# Altium schematic symbol library Battery Chargers.SchLib: 31 symbols
Pins are listed as number, name and electrical type; pins without a type are passive.

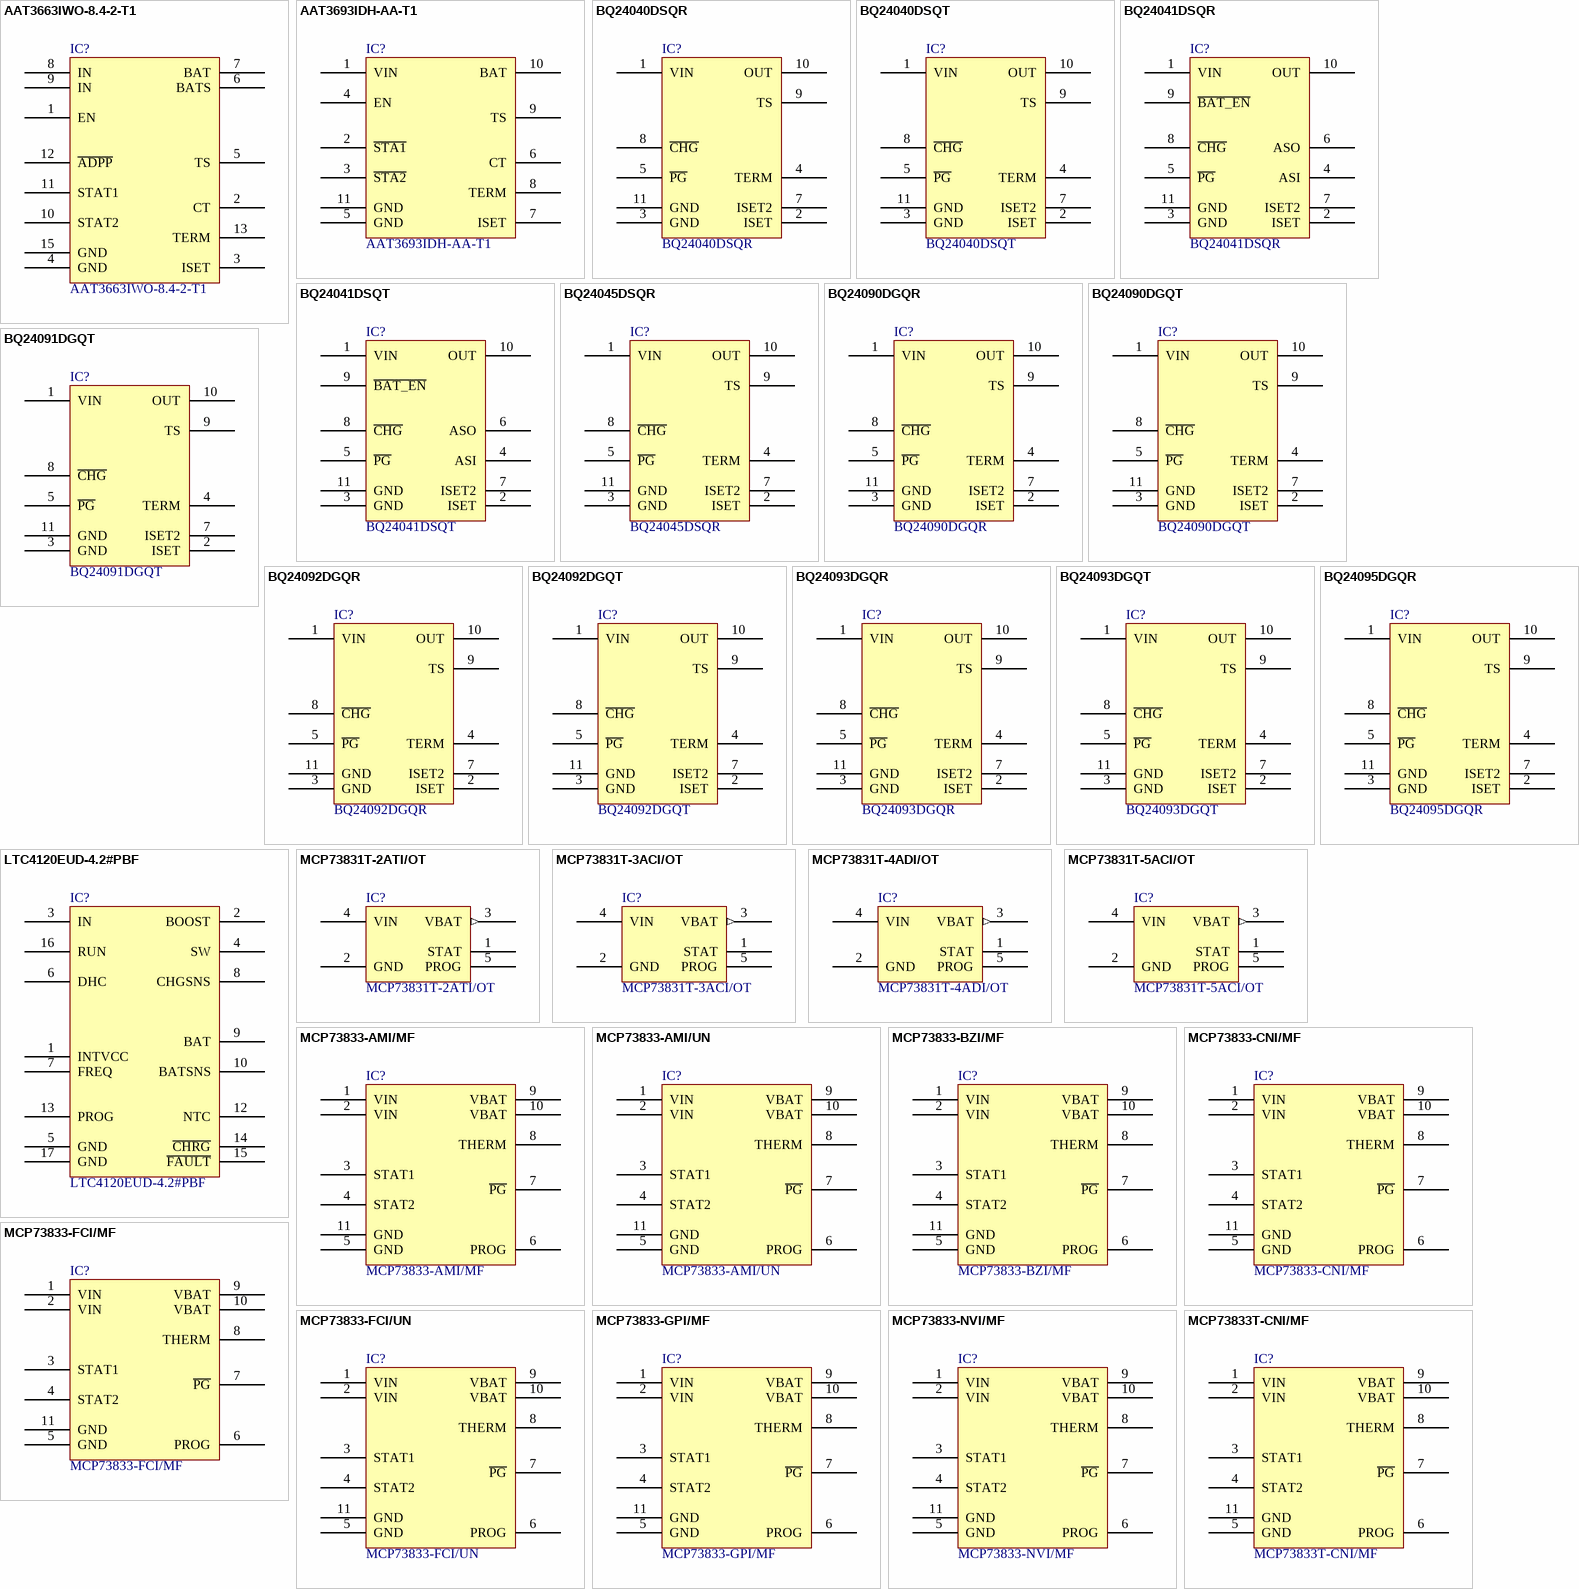
[diagram p0: symbols AAT3663IWO-8.4-2-T1 to MCP73833T-CNI/MF]

## AAT3663IWO-8.4-2-T1
designator IC?
IC LI-ION CHARGER 14-DFN; Manufacturer: Skyworks Solutions Inc.; Battery Chemistry: Lithium Ion/Polymer; Battery Pack Voltage: 8.4V; Charge Current - Max: 1A; Current - Charging: Constant - Programmable; Fault Protection: Over Current, Over Temperature, Over Voltage, Short Circuit; Interface: USB; Number of Cells: 2; Programmable Features: Current; Voltage - Supply (Max): 13.2V; Part Number: AAT3663IWO-8.4-2-T1; ComponentLink1Description: Datasheet; ComponentLink1URL: http://www.skyworksinc.com/uploads/documents/AAT3663_201878C.pdf; ComponentLink2Description: DigiKey Link; ComponentLink2URL: //digikey.com/product-detail/en/skyworks-solutions-inc/AAT3663IWO-8.4-2-T1/863-1544-2-ND/4753043; Device Package: 14-WFDFN Exposed Pad; LastUpdated: 12/6/2019 2:00:27 AM; Lifecycle Status: 0; Minimum Order: 1; Mounting Type: Surface Mount; Operating Temperature: -40°C ~ 85°C (TA); Package / Case: 14-WFDFN Exposed Pad; Packaging: TapeAndReel; PartId: 23; Part Status: Active; Price: 0.78; Series: BatteryManager™; Supplier 1: DigiKey; Supplier Part Number 1: 863-1544-2-ND; Supplier Device Package: 14-TDFN (3x3)
footprint SKYWORKS TDFN-14 3X3MM
pins: 1 EN, 2 CT, 3 ISET, 4 GND, 5 TS, 6 BATS, 7 BAT, 8 IN, 9 IN, 10 STAT2, 11 STAT1, 12 ~{ADPP}, 13 TERM, 15 GND

## AAT3693IDH-AA-T1
designator IC?
1.6A LINEAR LI-ION CHGR 10TDFN; Manufacturer: Skyworks Solutions Inc.; Battery Chemistry: Lithium Ion/Polymer; Battery Pack Voltage: 4.2V; Current - Charging: Constant - Programmable; Fault Protection: Over Current, Over Temperature, Over Voltage, Short Circuit; Interface: USB; Number of Cells: 1; Programmable Features: Current; Voltage - Supply (Max): 7.5V; Part Number: AAT3693IDH-AA-T1; Charge Current - Max: 1.6A; ComponentLink1Description: Datasheet; ComponentLink1URL: http://www.skyworksinc.com/uploads/documents/AAT3693_201896E.pdf; ComponentLink2Description: DigiKey Link; ComponentLink2URL: //digikey.com/product-detail/en/skyworks-solutions-inc/AAT3693IDH-AA-T1/863-1512-2-ND/4246165; Device Package: 10-WFDFN Exposed Pad; LastUpdated: 12/3/2019 11:40:28 PM; Lifecycle Status: 0; Minimum Order: 1; Mounting Type: Surface Mount; Operating Temperature: -40°C ~ 85°C (TA); Package / Case: 10-WFDFN Exposed Pad; Packaging: TapeAndReel; PartId: 2; Part Status: Active; Price: 0.41; Series: -; Supplier 1: DigiKey; Supplier Part Number 1: 863-1512-2-ND; Supplier Device Package: 10-TDFN (2.2x2.2)
footprint SKYWORKS TDFN-10 2.2X2.2MM
pins: 1 VIN, 2 ~{STA1}, 3 ~{STA2}, 4 EN, 5 GND, 6 CT, 7 ISET, 8 TERM, 9 TS, 10 BAT, 11 GND

## BQ24040DSQR
designator IC?
IC BATT CHG LI-ION 1 CELL 10SON; Manufacturer: Texas Instruments; Battery Chemistry: Lithium Ion/Polymer; Battery Pack Voltage: 4.2V; Charge Current - Max: 1A; Current - Charging: Constant - Programmable; Fault Protection: Over Temperature, Over Voltage, Short Circuit; Number of Cells: 1; Programmable Features: Current; Voltage - Supply (Max): 28V; Part Number: BQ24040DSQR; ComponentLink1Description: Datasheet; ComponentLink1URL: http://www.ti.com/general/docs/suppproductinfo.tsp?distId=10&gotoUrl=http%3A%2F%2Fwww.ti.com%2Flit%2Fgpn%2Fbq24040; ComponentLink2Description: DigiKey Link; ComponentLink2URL: //digikey.com/product-detail/en/texas-instruments/BQ24040DSQR/296-37142-2-ND/2231631; Device Package: 10-WFDFN Exposed Pad; LastUpdated: 12/3/2019 11:44:47 PM; Lifecycle Status: 0; Minimum Order: 1; Mounting Type: Surface Mount; Operating Temperature: -40°C ~ 85°C (TA); Package / Case: 10-WFDFN Exposed Pad; Packaging: TapeAndReel; PartId: 3; Part Status: Active; Price: 0.49; Series: -; Supplier 1: DigiKey; Supplier Part Number 1: 296-37142-2-ND; Supplier Device Package: 10-SON (2x2)
footprint TI PWSON-10 DSQ
pins: 1 VIN, 2 ISET, 3 GND, 4 TERM, 5 ~{PG}, 7 ISET2, 8 ~{CHG}, 9 TS, 10 OUT, 11 GND

## BQ24040DSQT
designator IC?
IC BATT CHG LI-ION 1 CELL 10SON; Manufacturer: Texas Instruments; Battery Chemistry: Lithium Ion/Polymer; Battery Pack Voltage: 4.2V; Charge Current - Max: 1A; Current - Charging: Constant - Programmable; Fault Protection: Over Temperature, Over Voltage, Short Circuit; Number of Cells: 1; Programmable Features: Current; Voltage - Supply (Max): 28V; Part Number: BQ24040DSQT; ComponentLink1Description: Datasheet; ComponentLink1URL: http://www.ti.com/general/docs/suppproductinfo.tsp?distId=10&gotoUrl=http%3A%2F%2Fwww.ti.com%2Flit%2Fgpn%2Fbq24040; ComponentLink2Description: DigiKey Link; ComponentLink2URL: //digikey.com/product-detail/en/texas-instruments/BQ24040DSQT/296-25136-2-ND/2165906; Device Package: 10-WFDFN Exposed Pad; LastUpdated: 12/8/2019 3:17:40 AM; Lifecycle Status: 0; Minimum Order: 1; Mounting Type: Surface Mount; Operating Temperature: -40°C ~ 85°C (TA); Package / Case: 10-WFDFN Exposed Pad; Packaging: TapeAndReel; PartId: 27; Part Status: Active; Price: 0.81; Series: -; Supplier 1: DigiKey; Supplier Part Number 1: 296-25136-2-ND; Supplier Device Package: 10-SON (2x2)
footprint TI PWSON-10 DSQ
pins: 1 VIN, 2 ISET, 3 GND, 4 TERM, 5 ~{PG}, 7 ISET2, 8 ~{CHG}, 9 TS, 10 OUT, 11 GND

## BQ24041DSQR
designator IC?
IC BATT CHG LI-ION 1 CELL 10SON; Manufacturer: Texas Instruments; Battery Chemistry: Lithium Ion/Polymer; Battery Pack Voltage: 4.2V; Charge Current - Max: 1A; Current - Charging: Constant - Programmable; Fault Protection: Over Temperature, Over Voltage, Short Circuit; Number of Cells: 1; Voltage - Supply (Max): 28V; Part Number: BQ24041DSQR; ComponentLink1Description: Datasheet; ComponentLink1URL: http://www.ti.com/general/docs/suppproductinfo.tsp?distId=10&gotoUrl=http%3A%2F%2Fwww.ti.com%2Flit%2Fgpn%2Fbq24041; ComponentLink2Description: DigiKey Link; ComponentLink2URL: //digikey.com/product-detail/en/texas-instruments/BQ24041DSQR/296-46410-1-ND/7033584; Device Package: 10-WFDFN Exposed Pad; LastUpdated: 12/3/2019 11:47:33 PM; Lifecycle Status: 0; Minimum Order: 1; Mounting Type: Surface Mount; Operating Temperature: 0°C ~ 125°C (TJ); Package / Case: 10-WFDFN Exposed Pad; Packaging: CutTape; PartId: 4; Part Status: Active; Price: 1.26; Series: -; Supplier 1: DigiKey; Supplier Part Number 1: 296-46410-1-ND; Supplier Device Package: 10-WSON (2x2)
footprint TI PWSON-10 DSQ
pins: 1 VIN, 2 ISET, 3 GND, 4 ASI, 5 ~{PG}, 6 ASO, 7 ISET2, 8 ~{CHG}, 9 ~{BAT_EN}, 10 OUT, 11 GND

## BQ24041DSQT
designator IC?
IC BATT CHG LI-ION 1 CELL 10SON; Manufacturer: Texas Instruments; Battery Chemistry: Lithium Ion/Polymer; Battery Pack Voltage: 4.2V; Charge Current - Max: 1A; Current - Charging: Constant - Programmable; Fault Protection: Over Temperature, Over Voltage, Short Circuit; Number of Cells: 1; Voltage - Supply (Max): 28V; Part Number: BQ24041DSQT; ComponentLink1Description: Datasheet; ComponentLink1URL: http://www.ti.com/general/docs/suppproductinfo.tsp?distId=10&gotoUrl=http%3A%2F%2Fwww.ti.com%2Flit%2Fgpn%2Fbq24041; ComponentLink2Description: DigiKey Link; ComponentLink2URL: //digikey.com/product-detail/en/texas-instruments/BQ24041DSQT/296-25137-2-ND/2165907; Device Package: 10-WFDFN Exposed Pad; LastUpdated: 12/8/2019 3:18:14 AM; Lifecycle Status: 0; Minimum Order: 1; Mounting Type: Surface Mount; Operating Temperature: 0°C ~ 125°C (TJ); Package / Case: 10-WFDFN Exposed Pad; Packaging: TapeAndReel; PartId: 28; Part Status: Active; Price: 0.81; Series: -; Supplier 1: DigiKey; Supplier Part Number 1: 296-25137-2-ND; Supplier Device Package: 10-SON (2x2)
footprint TI PWSON-10 DSQ
pins: 1 VIN, 2 ISET, 3 GND, 4 ASI, 5 ~{PG}, 6 ASO, 7 ISET2, 8 ~{CHG}, 9 ~{BAT_EN}, 10 OUT, 11 GND

## BQ24045DSQR
designator IC?
IC BATT CHG LI-ION 1 CELL 10SON; Manufacturer: Texas Instruments; Battery Chemistry: Lithium Ion/Polymer; Battery Pack Voltage: 4.35V; Charge Current - Max: 1A; Current - Charging: Constant - Programmable; Fault Protection: Over Temperature, Over Voltage, Short Circuit; Number of Cells: 1; Programmable Features: Current; Voltage - Supply (Max): 28V; Part Number: BQ24045DSQR; ComponentLink1Description: Datasheet; ComponentLink1URL: http://www.ti.com/general/docs/suppproductinfo.tsp?distId=10&gotoUrl=http%3A%2F%2Fwww.ti.com%2Flit%2Fgpn%2Fbq24045; ComponentLink2Description: DigiKey Link; ComponentLink2URL: //digikey.com/product-detail/en/texas-instruments/BQ24045DSQR/296-39905-2-ND/3926683; Device Package: 10-WFDFN Exposed Pad; LastUpdated: 12/4/2019 1:41:14 AM; Lifecycle Status: 0; Minimum Order: 1; Mounting Type: Surface Mount; Operating Temperature: 0°C ~ 125°C (TJ); Package / Case: 10-WFDFN Exposed Pad; Packaging: TapeAndReel; PartId: 7; Part Status: Active; Price: 0.49; Series: -; Supplier 1: DigiKey; Supplier Part Number 1: 296-39905-2-ND; Supplier Device Package: 10-SON (2x2)
footprint TI PWSON-10 DSQ
pins: 1 VIN, 2 ISET, 3 GND, 4 TERM, 5 ~{PG}, 7 ISET2, 8 ~{CHG}, 9 TS, 10 OUT, 11 GND

## BQ24090DGQR
designator IC?
IC BATT CHRGR LI-ION 10MSOP; Manufacturer: Texas Instruments; Battery Chemistry: Lithium Ion/Polymer; Battery Pack Voltage: 4.2V; Charge Current - Max: 1A; Current - Charging: Constant - Programmable; Fault Protection: Over Temperature, Over Voltage, Short Circuit; Interface: USB; Number of Cells: 1; Programmable Features: Current; Voltage - Supply (Max): 6.45V; Part Number: BQ24090DGQR; ComponentLink1Description: Datasheet; ComponentLink1URL: http://www.ti.com/general/docs/suppproductinfo.tsp?distId=10&gotoUrl=http%3A%2F%2Fwww.ti.com%2Flit%2Fgpn%2Fbq24092; ComponentLink2Description: DigiKey Link; ComponentLink2URL: //digikey.com/product-detail/en/texas-instruments/BQ24090DGQR/296-38875-2-ND/2353309; Device Package: 10-TFSOP, 10-MSOP (0.118", 3.00mm Width) Exposed Pad; LastUpdated: 12/4/2019 1:51:50 AM; Lifecycle Status: 0; Minimum Order: 1; Mounting Type: Surface Mount; Operating Temperature: 0°C ~ 125°C (TJ); Package / Case: 10-TFSOP, 10-MSOP (0.118", 3.00mm Width) Exposed Pad; Packaging: TapeAndReel; PartId: 8; Part Status: Active; Price: 0.50; Series: -; Supplier 1: DigiKey; Supplier Part Number 1: 296-38875-2-ND; Supplier Device Package: 10-MSOP-PowerPad
footprint TI MSOP-10 DGQ
pins: 1 VIN, 2 ISET, 3 GND, 4 TERM, 5 ~{PG}, 7 ISET2, 8 ~{CHG}, 9 TS, 10 OUT, 11 GND

## BQ24090DGQT
designator IC?
IC BATT CHRGR LI-ION 10MSOP; Manufacturer: Texas Instruments; Battery Chemistry: Lithium Ion/Polymer; Battery Pack Voltage: 4.2V; Charge Current - Max: 1A; Current - Charging: Constant - Programmable; Fault Protection: Over Temperature, Over Voltage, Short Circuit; Interface: USB; Number of Cells: 1; Programmable Features: Current; Voltage - Supply (Max): 6.45V; Part Number: BQ24090DGQT; ComponentLink1Description: Datasheet; ComponentLink1URL: http://www.ti.com/general/docs/suppproductinfo.tsp?distId=10&gotoUrl=http%3A%2F%2Fwww.ti.com%2Flit%2Fgpn%2Fbq24092; ComponentLink2Description: DigiKey Link; ComponentLink2URL: //digikey.com/product-detail/en/texas-instruments/BQ24090DGQT/296-25863-2-ND/2237296; Device Package: 10-TFSOP, 10-MSOP (0.118", 3.00mm Width) Exposed Pad; LastUpdated: 12/8/2019 3:14:09 AM; Lifecycle Status: 0; Minimum Order: 1; Mounting Type: Surface Mount; Operating Temperature: 0°C ~ 125°C (TJ); Package / Case: 10-TFSOP, 10-MSOP (0.118", 3.00mm Width) Exposed Pad; Packaging: TapeAndReel; PartId: 24; Part Status: Active; Price: 0.83; Series: -; Supplier 1: DigiKey; Supplier Part Number 1: 296-25863-2-ND; Supplier Device Package: 10-MSOP-PowerPad
footprint TI PDSO-10 DCQ
pins: 1 VIN, 2 ISET, 3 GND, 4 TERM, 5 ~{PG}, 7 ISET2, 8 ~{CHG}, 9 TS, 10 OUT, 11 GND

## BQ24091DGQT
designator IC?
IC BATT CHRGR LI-ION 10MSOP; Manufacturer: Texas Instruments; Battery Chemistry: Lithium Ion/Polymer; Battery Pack Voltage: 4.2V; Charge Current - Max: 1A; Current - Charging: Constant - Programmable; Fault Protection: Over Temperature, Over Voltage, Short Circuit; Interface: USB; Number of Cells: 1; Programmable Features: Current; Voltage - Supply (Max): 6.45V; Part Number: BQ24091DGQT; ComponentLink1Description: Datasheet; ComponentLink1URL: http://www.ti.com/general/docs/suppproductinfo.tsp?distId=10&gotoUrl=http%3A%2F%2Fwww.ti.com%2Flit%2Fgpn%2Fbq24092; ComponentLink2Description: DigiKey Link; ComponentLink2URL: //digikey.com/product-detail/en/texas-instruments/BQ24091DGQT/296-25864-2-ND/2237297; Device Package: 10-TFSOP, 10-MSOP (0.118", 3.00mm Width) Exposed Pad; LastUpdated: 12/4/2019 1:51:55 AM; Lifecycle Status: 0; Minimum Order: 1; Mounting Type: Surface Mount; Operating Temperature: 0°C ~ 125°C (TJ); Package / Case: 10-TFSOP, 10-MSOP (0.118", 3.00mm Width) Exposed Pad; Packaging: TapeAndReel; PartId: 10; Part Status: Active; Price: 0.83; Series: -; Supplier 1: DigiKey; Supplier Part Number 1: 296-25864-2-ND; Supplier Device Package: 10-MSOP-PowerPad
footprint TI MSOP-10 DGQ
pins: 1 VIN, 2 ISET, 3 GND, 4 TERM, 5 ~{PG}, 7 ISET2, 8 ~{CHG}, 9 TS, 10 OUT, 11 GND

## BQ24092DGQR
designator IC?
IC BATT CHARGER LI-ION 10MSOP; Manufacturer: Texas Instruments; Battery Chemistry: Lithium Ion/Polymer; Battery Pack Voltage: 4.2V; Charge Current - Max: 1A; Current - Charging: Constant - Programmable; Fault Protection: Over Temperature, Over Voltage, Short Circuit; Interface: USB; Number of Cells: 1; Programmable Features: Current; Voltage - Supply (Max): 6.45V; Part Number: BQ24092DGQR; ComponentLink1Description: Datasheet; ComponentLink1URL: http://www.ti.com/general/docs/suppproductinfo.tsp?distId=10&gotoUrl=http%3A%2F%2Fwww.ti.com%2Flit%2Fgpn%2Fbq24092; ComponentLink2Description: DigiKey Link; ComponentLink2URL: //digikey.com/product-detail/en/texas-instruments/BQ24092DGQR/296-41204-2-ND/2353311; Device Package: 10-TFSOP, 10-MSOP (0.118", 3.00mm Width) Exposed Pad; LastUpdated: 12/3/2019 11:57:11 PM; Lifecycle Status: 0; Minimum Order: 1; Mounting Type: Surface Mount; Operating Temperature: 0°C ~ 125°C (TJ); Package / Case: 10-TFSOP, 10-MSOP (0.118", 3.00mm Width) Exposed Pad; Packaging: TapeAndReel; PartId: 5; Part Status: Active; Price: 0.50; Series: -; Supplier 1: DigiKey; Supplier Part Number 1: 296-41204-2-ND; Supplier Device Package: 10-MSOP-PowerPad
footprint TI MSOP-10 DGQ
pins: 1 VIN, 2 ISET, 3 GND, 4 TERM, 5 ~{PG}, 7 ISET2, 8 ~{CHG}, 9 TS, 10 OUT, 11 GND

## BQ24092DGQT
designator IC?
IC BATT CHARGER LI-ION 10MSOP; Manufacturer: Texas Instruments; Battery Chemistry: Lithium Ion/Polymer; Battery Pack Voltage: 4.2V; Charge Current - Max: 1A; Current - Charging: Constant - Programmable; Fault Protection: Over Temperature, Over Voltage, Short Circuit; Interface: USB; Number of Cells: 1; Programmable Features: Current; Voltage - Supply (Max): 6.45V; Part Number: BQ24092DGQT; ComponentLink1Description: Datasheet; ComponentLink1URL: http://www.ti.com/general/docs/suppproductinfo.tsp?distId=10&gotoUrl=http%3A%2F%2Fwww.ti.com%2Flit%2Fgpn%2Fbq24092; ComponentLink2Description: DigiKey Link; ComponentLink2URL: //digikey.com/product-detail/en/texas-instruments/BQ24092DGQT/296-27510-2-ND/2325817; Device Package: 10-TFSOP, 10-MSOP (0.118", 3.00mm Width) Exposed Pad; LastUpdated: 12/8/2019 3:15:42 AM; Lifecycle Status: 0; Minimum Order: 1; Mounting Type: Surface Mount; Operating Temperature: 0°C ~ 125°C (TJ); Package / Case: 10-TFSOP, 10-MSOP (0.118", 3.00mm Width) Exposed Pad; Packaging: TapeAndReel; PartId: 25; Part Status: Active; Price: 0.83; Series: -; Supplier 1: DigiKey; Supplier Part Number 1: 296-27510-2-ND; Supplier Device Package: 10-MSOP-PowerPad
footprint TI PDSO-10 DCQ
pins: 1 VIN, 2 ISET, 3 GND, 4 TERM, 5 ~{PG}, 7 ISET2, 8 ~{CHG}, 9 TS, 10 OUT, 11 GND

## BQ24093DGQR
designator IC?
IC BATT CHRGR LI-ION 10MSOP; Manufacturer: Texas Instruments; Battery Chemistry: Lithium Ion/Polymer; Battery Pack Voltage: 4.2V; Charge Current - Max: 1A; Current - Charging: Constant - Programmable; Fault Protection: Over Temperature, Over Voltage, Short Circuit; Interface: USB; Number of Cells: 1; Programmable Features: Current; Voltage - Supply (Max): 6.45V; Part Number: BQ24093DGQR; ComponentLink1Description: Datasheet; ComponentLink1URL: http://www.ti.com/general/docs/suppproductinfo.tsp?distId=10&gotoUrl=http%3A%2F%2Fwww.ti.com%2Flit%2Fgpn%2Fbq24092; ComponentLink2Description: DigiKey Link; ComponentLink2URL: //digikey.com/product-detail/en/texas-instruments/BQ24093DGQR/296-48106-2-ND/2353312; Device Package: 10-TFSOP, 10-MSOP (0.118", 3.00mm Width) Exposed Pad; LastUpdated: 12/4/2019 1:51:53 AM; Lifecycle Status: 0; Minimum Order: 1; Mounting Type: Surface Mount; Operating Temperature: 0°C ~ 125°C (TJ); Package / Case: 10-TFSOP, 10-MSOP (0.118", 3.00mm Width) Exposed Pad; Packaging: TapeAndReel; PartId: 9; Part Status: Active; Price: 0.50; Series: -; Supplier 1: DigiKey; Supplier Part Number 1: 296-48106-2-ND; Supplier Device Package: 10-MSOP-PowerPad
footprint TI MSOP-10 DGQ
pins: 1 VIN, 2 ISET, 3 GND, 4 TERM, 5 ~{PG}, 7 ISET2, 8 ~{CHG}, 9 TS, 10 OUT, 11 GND

## BQ24093DGQT
designator IC?
IC BATT CHARGER LI-ION 10MSOP; Manufacturer: Texas Instruments; Battery Chemistry: Lithium Ion/Polymer; Battery Pack Voltage: 4.2V; Charge Current - Max: 1A; Current - Charging: Constant - Programmable; Fault Protection: Over Temperature, Over Voltage, Short Circuit; Interface: USB; Number of Cells: 1; Programmable Features: Current; Voltage - Supply (Max): 6.45V; Part Number: BQ24093DGQT; ComponentLink1Description: Datasheet; ComponentLink1URL: http://www.ti.com/general/docs/suppproductinfo.tsp?distId=10&gotoUrl=http%3A%2F%2Fwww.ti.com%2Flit%2Fgpn%2Fbq24092; ComponentLink2Description: DigiKey Link; ComponentLink2URL: //digikey.com/product-detail/en/texas-instruments/BQ24093DGQT/296-BQ24093DGQTTR-ND/2325822; Device Package: 10-TFSOP, 10-MSOP (0.118", 3.00mm Width) Exposed Pad; LastUpdated: 12/8/2019 3:16:29 AM; Lifecycle Status: 0; Minimum Order: 1; Mounting Type: Surface Mount; Operating Temperature: 0°C ~ 125°C (TJ); Package / Case: 10-TFSOP, 10-MSOP (0.118", 3.00mm Width) Exposed Pad; Packaging: TapeAndReel; PartId: 26; Part Status: Active; Price: 0.83; Series: -; Supplier 1: DigiKey; Supplier Part Number 1: 296-BQ24093DGQTTR-ND; Supplier Device Package: 10-MSOP-PowerPad
footprint TI PDSO-10 DCQ
pins: 1 VIN, 2 ISET, 3 GND, 4 TERM, 5 ~{PG}, 7 ISET2, 8 ~{CHG}, 9 TS, 10 OUT, 11 GND

## BQ24095DGQR
designator IC?
IC BATT CHRGR LI-ION/POL 10MSOP; Manufacturer: Texas Instruments; Battery Chemistry: Lithium Ion/Polymer; Battery Pack Voltage: 4.35V; Charge Current - Max: 1A; Current - Charging: Constant - Programmable; Fault Protection: Over Temperature, Over Voltage, Short Circuit; Interface: USB; Number of Cells: 1; Programmable Features: Current; Voltage - Supply (Max): 6.45V; Part Number: BQ24095DGQR; ComponentLink1Description: Datasheet; ComponentLink1URL: http://www.ti.com/general/docs/suppproductinfo.tsp?distId=10&gotoUrl=http%3A%2F%2Fwww.ti.com%2Flit%2Fgpn%2Fbq24095; ComponentLink2Description: DigiKey Link; ComponentLink2URL: //digikey.com/product-detail/en/texas-instruments/BQ24095DGQR/296-39906-1-ND/5177783; Device Package: 10-TFSOP, 10-MSOP (0.118", 3.00mm Width) Exposed Pad; LastUpdated: 12/4/2019 1:51:57 AM; Lifecycle Status: 0; Minimum Order: 1; Mounting Type: Surface Mount; Operating Temperature: 0°C ~ 125°C (TJ); Package / Case: 10-TFSOP, 10-MSOP (0.118", 3.00mm Width) Exposed Pad; Packaging: CutTape; PartId: 11; Part Status: Active; Price: 1.28; Series: -; Supplier 1: DigiKey; Supplier Part Number 1: 296-39906-1-ND; Supplier Device Package: 10-MSOP-PowerPad
footprint TI MSOP-10 DGQ
pins: 1 VIN, 2 ISET, 3 GND, 4 TERM, 5 ~{PG}, 7 ISET2, 8 ~{CHG}, 9 TS, 10 OUT, 11 GND

## LTC4120EUD-4.2#PBF
designator IC?
IC BATT CHARGER 400MA RF 16QFN; Manufacturer: Linear Technology/Analog Devices; Battery Chemistry: Lithium Ion/Polymer; Battery Pack Voltage: 4.2V; Current - Charging: Constant - Programmable; Number of Cells: 1; Voltage - Supply (Max): 40V; Part Number: LTC4120EUD-4.2#PBF; Charge Current - Max: 400mA; ComponentLink1Description: Datasheet; ComponentLink1URL: http://www.linear.com/docs/43861; ComponentLink2Description: DigiKey Link; ComponentLink2URL: http://digikey.com/product-detail/en/linear-technology-analog-devices/LTC4120EUD-4.2-PBF/LTC4120EUD-4.2-PBF-ND/4915029; Device Package: 16-WFQFN Exposed Pad; LastUpdated: 3/19/2020 10:46:06 PM; Lifecycle Status: Active; Minimum Order: 1; Mounting Type: Surface Mount; Operating Temperature: -40°C ~ 125°C (TJ); Package / Case: 16-WFQFN Exposed Pad; Packaging: Tube; PartId: 31; Part Status: Active; Price: 8.11; Series: -; Supplier 1: DigiKey; Supplier Part Number 1: LTC4120EUD-4.2#PBF-ND; Supplier Device Package: 16-QFN (3x3)
footprint LTC QFN-16 UD
pins: 1 INTVCC, 2 BOOST, 3 IN, 4 SW, 5 GND, 6 DHC, 7 FREQ, 8 CHGSNS, 9 BAT, 10 BATSNS, 12 NTC, 13 PROG, 14 ~{CHRG}, 15 ~{FAULT}, 16 RUN, 17 GND

## MCP73831T-2ATI/OT
designator IC?
IC CONTROLLR LI-ION 4.2V SOT23-5; Manufacturer: Microchip Technology; Battery Chemistry: Lithium Ion/Polymer; Charge Current - Max: 500mA; Current - Charging: Constant - Programmable; Fault Protection: Over Voltage; Number of Cells: 1; Programmable Features: Current; Voltage - Supply (Max): 6V; Part Number: MCP73831T-2ATI/OT; Battery Pack Voltage: 4.2V; ComponentLink1Description: Datasheet; ComponentLink1URL: http://ww1.microchip.com/downloads/en/DeviceDoc/20001984g.pdf; ComponentLink2Description: DigiKey Link; ComponentLink2URL: //digikey.com/product-detail/en/microchip-technology/MCP73831T-2ATI-OT/MCP73831T-2ATI-OTTR-ND/964303; Device Package: SC-74A, SOT-753; LastUpdated: 12/3/2019 11:33:03 PM; Lifecycle Status: 0; Minimum Order: 1; Mounting Type: Surface Mount; Operating Temperature: -40°C ~ 85°C (TA); Package / Case: SC-74A, SOT-753; Packaging: TapeAndReel; PartId: 1; Part Status: Active; Price: 0.42; Series: -; Supplier 1: DigiKey; Supplier Part Number 1: MCP73831T-2ATI/OTTR-ND; Supplier Device Package: SOT-23-5
footprint MICROCHIP SOT-23-5 OT
pins: 1 STAT, 2 GND, 3 VBAT (out), 4 VIN, 5 PROG

## MCP73831T-3ACI/OT
designator IC?
IC CONTRLLR LI-ION 4.35V SOT23-5; Manufacturer: Microchip Technology; Battery Chemistry: Lithium Ion/Polymer; Charge Current - Max: 500mA; Current - Charging: Constant - Programmable; Fault Protection: Over Voltage; Number of Cells: 1; Programmable Features: Current; Voltage - Supply (Max): 6V; Part Number: MCP73831T-3ACI/OT; Battery Pack Voltage: 4.35V; ComponentLink1Description: Datasheet; ComponentLink1URL: http://ww1.microchip.com/downloads/en/DeviceDoc/20001984g.pdf; ComponentLink2Description: DigiKey Link; ComponentLink2URL: //digikey.com/product-detail/en/microchip-technology/MCP73831T-3ACI-OT/MCP73831T-3ACI-OTTR-ND/964307; Device Package: SC-74A, SOT-753; LastUpdated: 12/5/2019 7:31:08 AM; Lifecycle Status: 0; Minimum Order: 1; Mounting Type: Surface Mount; Operating Temperature: -40°C ~ 85°C (TA); Package / Case: SC-74A, SOT-753; Packaging: TapeAndReel; PartId: 13; Part Status: Active; Price: 0.42; Series: -; Supplier 1: DigiKey; Supplier Part Number 1: MCP73831T-3ACI/OTTR-ND; Supplier Device Package: SOT-23-5
footprint MICROCHIP SOT-23-5 OT
pins: 1 STAT, 2 GND, 3 VBAT (out), 4 VIN, 5 PROG

## MCP73831T-4ADI/OT
designator IC?
IC CONTRLR LI-ION 4.40V SOT23-5; Manufacturer: Microchip Technology; Battery Chemistry: Lithium Ion/Polymer; Battery Pack Voltage: 4.4V; Charge Current - Max: 500mA; Current - Charging: Constant - Programmable; Fault Protection: Over Voltage; Number of Cells: 1; Programmable Features: Current; Voltage - Supply (Max): 6V; Part Number: MCP73831T-4ADI/OT; ComponentLink1Description: Datasheet; ComponentLink1URL: http://ww1.microchip.com/downloads/en/DeviceDoc/20001984g.pdf; ComponentLink2Description: DigiKey Link; ComponentLink2URL: //digikey.com/product-detail/en/microchip-technology/MCP73831T-4ADI-OT/MCP73831T-4ADI-OTTR-ND/1874437; Device Package: SC-74A, SOT-753; LastUpdated: 12/5/2019 7:32:55 AM; Lifecycle Status: 0; Minimum Order: 1; Mounting Type: Surface Mount; Operating Temperature: -40°C ~ 85°C (TA); Package / Case: SC-74A, SOT-753; Packaging: TapeAndReel; PartId: 14; Part Status: Active; Price: 0.42; Series: -; Supplier 1: DigiKey; Supplier Part Number 1: MCP73831T-4ADI/OTTR-ND; Supplier Device Package: SOT-23-5
footprint MICROCHIP SOT-23-5 OT
pins: 1 STAT, 2 GND, 3 VBAT (out), 4 VIN, 5 PROG

## MCP73831T-5ACI/OT
designator IC?
IC CONTRLR LI-ION 4.50V SOT23-5; Manufacturer: Microchip Technology; Battery Chemistry: Lithium Ion/Polymer; Battery Pack Voltage: 4.5V; Charge Current - Max: 500mA; Current - Charging: Constant - Programmable; Fault Protection: Over Voltage; Number of Cells: 1; Programmable Features: Current; Voltage - Supply (Max): 6V; Part Number: MCP73831T-5ACI/OT; ComponentLink1Description: Datasheet; ComponentLink1URL: http://ww1.microchip.com/downloads/en/DeviceDoc/20001984g.pdf; ComponentLink2Description: DigiKey Link; ComponentLink2URL: //digikey.com/product-detail/en/microchip-technology/MCP73831T-5ACI-OT/MCP73831T-5ACI-OTTR-ND/1874434; Device Package: SC-74A, SOT-753; LastUpdated: 12/5/2019 7:14:13 AM; Lifecycle Status: 0; Minimum Order: 1; Mounting Type: Surface Mount; Operating Temperature: -40°C ~ 85°C (TA); Package / Case: SC-74A, SOT-753; Packaging: TapeAndReel; PartId: 12; Part Status: Active; Price: 0.42; Series: -; Supplier 1: DigiKey; Supplier Part Number 1: MCP73831T-5ACI/OTTR-ND; Supplier Device Package: SOT-23-5
footprint MICROCHIP SOT-23-5 OT
pins: 1 STAT, 2 GND, 3 VBAT (out), 4 VIN, 5 PROG

## MCP73833-AMI/MF
designator IC?
IC LI-ION/LI-POLY CTRLR 10DFN; Manufacturer: Microchip Technology; Battery Chemistry: Lithium Ion/Polymer; Battery Pack Voltage: 4.2V; Charge Current - Max: 1.1A; Current - Charging: Constant - Programmable; Fault Protection: Over Temperature; Number of Cells: 1; Programmable Features: Current; Voltage - Supply (Max): 6V; Part Number: MCP73833-AMI/MF; ComponentLink1Description: Datasheet; ComponentLink1URL: http://www.microchip.com/mymicrochip/filehandler.aspx?ddocname=en027983; ComponentLink2Description: DigiKey Link; ComponentLink2URL: http://digikey.com/product-detail/en/microchip-technology/MCP73833-AMI-MF/MCP73833-AMI-MF-ND/1223155; LastUpdated: 9/2/2020 1:23:10 AM; Lifecycle Status: Active; Minimum Order: 1; Mounting Type: Surface Mount; Operating Temperature: -40°C ~ 85°C (TA); Package / Case: 10-VFDFN Exposed Pad; Packaging: Tube; PartId: 17; Part Status: Active; Price: 0.85; Series: -; Supplier 1: DigiKey; Supplier Part Number 1: MCP73833-AMI/MF-ND; Supplier Device Package: 10-DFN (3x3)
footprint MICROCHIP DFN-10 3MMX3MM MF
pins: 1 VIN, 2 VIN, 3 STAT1, 4 STAT2, 5 GND, 6 PROG, 7 ~{PG}, 8 THERM, 9 VBAT, 10 VBAT, 11 GND

## MCP73833-AMI/UN
designator IC?
IC LI-ION/LI-POLY CTRLR 10MSOP; Manufacturer: Microchip Technology; Battery Chemistry: Lithium Ion/Polymer; Battery Pack Voltage: 4.2V; Charge Current - Max: 1.1A; Current - Charging: Constant - Programmable; Fault Protection: Over Temperature; Number of Cells: 1; Programmable Features: Current; Voltage - Supply (Max): 6V; Part Number: MCP73833-AMI/UN; ComponentLink1Description: Datasheet; ComponentLink1URL: http://www.microchip.com/mymicrochip/filehandler.aspx?ddocname=en027983; ComponentLink2Description: DigiKey Link; ComponentLink2URL: //digikey.com/product-detail/en/microchip-technology/MCP73833-AMI-UN/MCP73833-AMI-UN-ND/1223157; Device Package: 10-TFSOP, 10-MSOP (0.118", 3.00mm Width); LastUpdated: 12/4/2019 12:07:45 AM; Lifecycle Status: 0; Minimum Order: 1; Mounting Type: Surface Mount; Operating Temperature: -40°C ~ 85°C (TA); Package / Case: 10-TFSOP, 10-MSOP (0.118", 3.00mm Width); Packaging: Tube; PartId: 6; Part Status: Active; Price: 0.85; Series: -; Supplier 1: DigiKey; Supplier Part Number 1: MCP73833-AMI/UN-ND; Supplier Device Package: 10-MSOP
footprint MICROCHIP MSOP-10 UN
pins: 1 VIN, 2 VIN, 3 STAT1, 4 STAT2, 5 GND, 6 PROG, 7 ~{PG}, 8 THERM, 9 VBAT, 10 VBAT, 11 GND

## MCP73833-BZI/MF
designator IC?
IC LI-ION/LI-POLY CTRLR 10DFN; Manufacturer: Microchip Technology; Battery Chemistry: Lithium Ion/Polymer; Battery Pack Voltage: 4.2V; Charge Current - Max: 1.1A; Current - Charging: Constant - Programmable; Fault Protection: Over Temperature; Number of Cells: 1; Programmable Features: Current; Voltage - Supply (Max): 6V; Part Number: MCP73833-BZI/MF; ComponentLink1Description: Datasheet; ComponentLink1URL: http://www.microchip.com/mymicrochip/filehandler.aspx?ddocname=en027983; ComponentLink2Description: DigiKey Link; ComponentLink2URL: http://digikey.com/product-detail/en/microchip-technology/MCP73833-BZI-MF/MCP73833-BZI-MF-ND/1223163; LastUpdated: 9/2/2020 1:23:10 AM; Lifecycle Status: Active; Minimum Order: 1; Mounting Type: Surface Mount; Operating Temperature: -40°C ~ 85°C (TA); Package / Case: 10-VFDFN Exposed Pad; Packaging: Tube; PartId: 21; Part Status: Active; Price: 0.91; Series: -; Supplier 1: DigiKey; Supplier Part Number 1: MCP73833-BZI/MF-ND; Supplier Device Package: 10-DFN (3x3)
footprint MICROCHIP DFN-10 3MMX3MM MF
pins: 1 VIN, 2 VIN, 3 STAT1, 4 STAT2, 5 GND, 6 PROG, 7 ~{PG}, 8 THERM, 9 VBAT, 10 VBAT, 11 GND

## MCP73833-CNI/MF
designator IC?
IC LI-ION/LI-POLY CTRLR 10DFN; Manufacturer: Microchip Technology; Battery Chemistry: Lithium Ion/Polymer; Battery Pack Voltage: 4.2V; Charge Current - Max: 1.1A; Current - Charging: Constant - Programmable; Fault Protection: Over Temperature; Number of Cells: 1; Programmable Features: Current; Voltage - Supply (Max): 6V; Part Number: MCP73833-CNI/MF; ComponentLink1Description: Datasheet; ComponentLink1URL: http://www.microchip.com/mymicrochip/filehandler.aspx?ddocname=en027983; ComponentLink2Description: DigiKey Link; ComponentLink2URL: http://digikey.com/product-detail/en/microchip-technology/MCP73833-CNI-MF/MCP73833-CNI-MF-ND/1223167; LastUpdated: 9/2/2020 1:23:10 AM; Lifecycle Status: Active; Minimum Order: 1; Mounting Type: Surface Mount; Operating Temperature: -40°C ~ 85°C (TA); Package / Case: 10-VFDFN Exposed Pad; Packaging: Tube; PartId: 18; Part Status: Active; Price: 0.85; Series: -; Supplier 1: DigiKey; Supplier Part Number 1: MCP73833-CNI/MF-ND; Supplier Device Package: 10-DFN (3x3)
footprint MICROCHIP DFN-10 3MMX3MM MF
pins: 1 VIN, 2 VIN, 3 STAT1, 4 STAT2, 5 GND, 6 PROG, 7 ~{PG}, 8 THERM, 9 VBAT, 10 VBAT, 11 GND

## MCP73833-FCI/MF
designator IC?
IC LI-ION/LI-POLY CTRLR 10DFN; Manufacturer: Microchip Technology; Battery Chemistry: Lithium Ion/Polymer; Battery Pack Voltage: 4.2V; Charge Current - Max: 1.1A; Current - Charging: Constant - Programmable; Fault Protection: Over Temperature; Number of Cells: 1; Programmable Features: Current; Voltage - Supply (Max): 6V; Part Number: MCP73833-FCI/MF; ComponentLink1Description: Datasheet; ComponentLink1URL: http://www.microchip.com/mymicrochip/filehandler.aspx?ddocname=en027983; ComponentLink2Description: DigiKey Link; ComponentLink2URL: http://digikey.com/product-detail/en/microchip-technology/MCP73833-FCI-MF/MCP73833-FCI-MF-ND/1223173; LastUpdated: 9/2/2020 1:23:10 AM; Lifecycle Status: Active; Minimum Order: 1; Mounting Type: Surface Mount; Operating Temperature: -40°C ~ 85°C (TA); Package / Case: 10-VFDFN Exposed Pad; Packaging: Tube; PartId: 22; Part Status: Active; Price: 0.85; Series: -; Supplier 1: DigiKey; Supplier Part Number 1: MCP73833-FCI/MF-ND; Supplier Device Package: 10-DFN (3x3)
footprint MICROCHIP DFN-10 3MMX3MM MF
pins: 1 VIN, 2 VIN, 3 STAT1, 4 STAT2, 5 GND, 6 PROG, 7 ~{PG}, 8 THERM, 9 VBAT, 10 VBAT, 11 GND

## MCP73833-FCI/UN
designator IC?
IC LI-ION/LI-POLY CTRLR 10MSOP; Manufacturer: Microchip Technology; Battery Chemistry: Lithium Ion/Polymer; Battery Pack Voltage: 4.2V; Charge Current - Max: 1.1A; Current - Charging: Constant - Programmable; Fault Protection: Over Temperature; Number of Cells: 1; Programmable Features: Current; Voltage - Supply (Max): 6V; Part Number: MCP73833-FCI/UN; ComponentLink1Description: Datasheet; ComponentLink1URL: http://www.microchip.com/mymicrochip/filehandler.aspx?ddocname=en027983; ComponentLink2Description: DigiKey Link; ComponentLink2URL: //digikey.com/product-detail/en/microchip-technology/MCP73833-FCI-UN/MCP73833-FCI-UN-ND/1223175; Device Package: 10-TFSOP, 10-MSOP (0.118", 3.00mm Width); LastUpdated: 12/8/2019 3:18:49 AM; Lifecycle Status: 0; Minimum Order: 1; Mounting Type: Surface Mount; Operating Temperature: -40°C ~ 85°C (TA); Package / Case: 10-TFSOP, 10-MSOP (0.118", 3.00mm Width); Packaging: Tube; PartId: 29; Part Status: Active; Price: 0.85; Series: -; Supplier 1: DigiKey; Supplier Part Number 1: MCP73833-FCI/UN-ND; Supplier Device Package: 10-MSOP
footprint MICROCHIP MSOP-10 UN
pins: 1 VIN, 2 VIN, 3 STAT1, 4 STAT2, 5 GND, 6 PROG, 7 ~{PG}, 8 THERM, 9 VBAT, 10 VBAT, 11 GND

## MCP73833-GPI/MF
designator IC?
IC LI-ION/LI-POLY CTRLR 10DFN; Manufacturer: Microchip Technology; Battery Chemistry: Lithium Ion/Polymer; Battery Pack Voltage: 4.2V; Charge Current - Max: 1.1A; Current - Charging: Constant - Programmable; Fault Protection: Over Temperature; Number of Cells: 1; Programmable Features: Current; Voltage - Supply (Max): 6V; Part Number: MCP73833-GPI/MF; ComponentLink1Description: Datasheet; ComponentLink1URL: http://www.microchip.com/mymicrochip/filehandler.aspx?ddocname=en027983; ComponentLink2Description: DigiKey Link; ComponentLink2URL: http://digikey.com/product-detail/en/microchip-technology/MCP73833-GPI-MF/MCP73833-GPI-MF-ND/1626619; LastUpdated: 9/2/2020 1:23:10 AM; Lifecycle Status: Active; Minimum Order: 1; Mounting Type: Surface Mount; Operating Temperature: -40°C ~ 85°C (TA); Package / Case: 10-VFDFN Exposed Pad; Packaging: Tube; PartId: 20; Part Status: Active; Price: 0.91; Series: -; Supplier 1: DigiKey; Supplier Part Number 1: MCP73833-GPI/MF-ND; Supplier Device Package: 10-DFN (3x3)
footprint MICROCHIP DFN-10 3MMX3MM MF
pins: 1 VIN, 2 VIN, 3 STAT1, 4 STAT2, 5 GND, 6 PROG, 7 ~{PG}, 8 THERM, 9 VBAT, 10 VBAT, 11 GND

## MCP73833-NVI/MF
designator IC?
IC LI-ION/LI-POLY CTRLR 10DFN; Manufacturer: Microchip Technology; Battery Chemistry: Lithium Ion/Polymer; Battery Pack Voltage: 4.35V; Charge Current - Max: 1.1A; Current - Charging: Constant - Programmable; Fault Protection: Over Temperature; Number of Cells: 1; Programmable Features: Current; Voltage - Supply (Max): 6V; Part Number: MCP73833-NVI/MF; ComponentLink1Description: Datasheet; ComponentLink1URL: http://www.microchip.com/mymicrochip/filehandler.aspx?ddocname=en027983; ComponentLink2Description: DigiKey Link; ComponentLink2URL: http://digikey.com/product-detail/en/microchip-technology/MCP73833-NVI-MF/MCP73833-NVI-MF-ND/1223177; LastUpdated: 9/2/2020 1:23:10 AM; Lifecycle Status: Active; Minimum Order: 1; Mounting Type: Surface Mount; Operating Temperature: -40°C ~ 85°C (TA); Package / Case: 10-VFDFN Exposed Pad; Packaging: Tube; PartId: 19; Part Status: Active; Price: 0.85; Series: -; Supplier 1: DigiKey; Supplier Part Number 1: MCP73833-NVI/MF-ND; Supplier Device Package: 10-DFN (3x3)
footprint MICROCHIP DFN-10 3MMX3MM MF
pins: 1 VIN, 2 VIN, 3 STAT1, 4 STAT2, 5 GND, 6 PROG, 7 ~{PG}, 8 THERM, 9 VBAT, 10 VBAT, 11 GND

## MCP73833T-CNI/MF
designator IC?
IC LI-ION/LI-POLY CTRLR 10DFN; Manufacturer: Microchip Technology; Battery Chemistry: Lithium Ion/Polymer; Battery Pack Voltage: 4.2V; Charge Current - Max: 1.1A; Current - Charging: Constant - Programmable; Fault Protection: Over Temperature; Number of Cells: 1; Programmable Features: Current; Voltage - Supply (Max): 6V; Part Number: MCP73833T-CNI/MF; ComponentLink1Description: Datasheet; ComponentLink1URL: http://www.microchip.com/mymicrochip/filehandler.aspx?ddocname=en027983; ComponentLink2Description: DigiKey Link; ComponentLink2URL: //digikey.com/product-detail/en/microchip-technology/MCP73833T-CNI-MF/MCP73833T-CNI-MFTR-ND/1223193; Device Package: 10-VFDFN Exposed Pad; LastUpdated: 12/6/2019 1:29:28 AM; Lifecycle Status: 0; Minimum Order: 1; Mounting Type: Surface Mount; Operating Temperature: -40°C ~ 85°C (TA); Package / Case: 10-VFDFN Exposed Pad; Packaging: TapeAndReel; PartId: 16; Part Status: Active; Price: 0.65; Series: -; Supplier 1: DigiKey; Supplier Part Number 1: MCP73833T-CNI/MFTR-ND; Supplier Device Package: 10-DFN (3x3)
footprint MICROCHIP DFN-10 3MMX3MM MF
pins: 1 VIN, 2 VIN, 3 STAT1, 4 STAT2, 5 GND, 6 PROG, 7 ~{PG}, 8 THERM, 9 VBAT, 10 VBAT, 11 GND

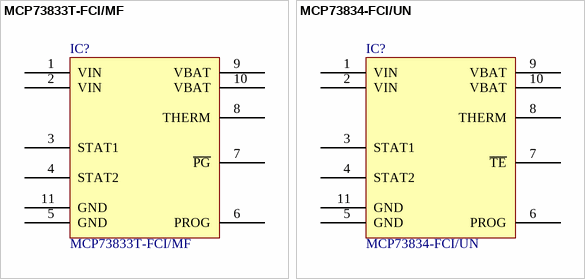
[diagram p1: symbols MCP73833T-FCI/MF to MCP73834-FCI/UN]

## MCP73833T-FCI/MF
designator IC?
IC LI-ION/LI-POLY CTRLR 10DFN; Manufacturer: Microchip Technology; Battery Chemistry: Lithium Ion/Polymer; Battery Pack Voltage: 4.2V; Charge Current - Max: 1A; Current - Charging: Constant - Programmable; Fault Protection: Over Temperature; Number of Cells: 1; Programmable Features: Current; Voltage - Supply (Max): 6V; Part Number: MCP73833T-FCI/MF; ComponentLink1Description: Datasheet; ComponentLink1URL: http://www.microchip.com/mymicrochip/filehandler.aspx?ddocname=en027983; ComponentLink2Description: DigiKey Link; ComponentLink2URL: //digikey.com/product-detail/en/microchip-technology/MCP73833T-FCI-MF/MCP73833T-FCI-MFTR-ND/1223197; Device Package: 10-VFDFN Exposed Pad; LastUpdated: 12/5/2019 7:37:53 AM; Lifecycle Status: 0; Minimum Order: 1; Mounting Type: Surface Mount; Operating Temperature: -40°C ~ 85°C (TA); Package / Case: 10-VFDFN Exposed Pad; Packaging: TapeAndReel; PartId: 15; Part Status: Active; Price: 0.65; Series: -; Supplier 1: DigiKey; Supplier Part Number 1: MCP73833T-FCI/MFTR-ND; Supplier Device Package: 10-DFN (3x3)
footprint MICROCHIP DFN-10 3MMX3MM MF
pins: 1 VIN, 2 VIN, 3 STAT1, 4 STAT2, 5 GND, 6 PROG, 7 ~{PG}, 8 THERM, 9 VBAT, 10 VBAT, 11 GND

## MCP73834-FCI/UN
designator IC?
IC LI-ION/LI-POLY CTRLR 10MSOP; Manufacturer: Microchip Technology; Battery Chemistry: Lithium Ion/Polymer; Battery Pack Voltage: 4.2V; Charge Current - Max: 1.1A; Current - Charging: Constant - Programmable; Fault Protection: Over Temperature; Number of Cells: 1; Programmable Features: Current; Voltage - Supply (Max): 6V; Part Number: MCP73834-FCI/UN; ComponentLink1Description: Datasheet; ComponentLink1URL: http://www.microchip.com/mymicrochip/filehandler.aspx?ddocname=en027983; ComponentLink2Description: DigiKey Link; ComponentLink2URL: //digikey.com/product-detail/en/microchip-technology/MCP73834-FCI-UN/MCP73834-FCI-UN-ND/1223213; Device Package: 10-TFSOP, 10-MSOP (0.118", 3.00mm Width); LastUpdated: 12/8/2019 3:19:06 AM; Lifecycle Status: 0; Minimum Order: 1; Mounting Type: Surface Mount; Operating Temperature: -40°C ~ 85°C (TA); Package / Case: 10-TFSOP, 10-MSOP (0.118", 3.00mm Width); Packaging: Tube; PartId: 30; Part Status: Active; Price: 0.85; Series: -; Supplier 1: DigiKey; Supplier Part Number 1: MCP73834-FCI/UN-ND; Supplier Device Package: 10-MSOP
footprint MICROCHIP MSOP-10 UN
pins: 1 VIN, 2 VIN, 3 STAT1, 4 STAT2, 5 GND, 6 PROG, 7 ~{TE}, 8 THERM, 9 VBAT, 10 VBAT, 11 GND